# Altium footprint library IC_NRF7002-QFAA-R7.PcbLib: 1 footprints
Each footprint in its own frame and in the unit in brackets; x right, y up, seen from the top. Pads: shape width x height; smd on the part's side, far side on the other; paste and mask are expansions set on the pad; w line width, h text height; cw(c..) or ccw(c..) is an arc to the next point about the centre after c.
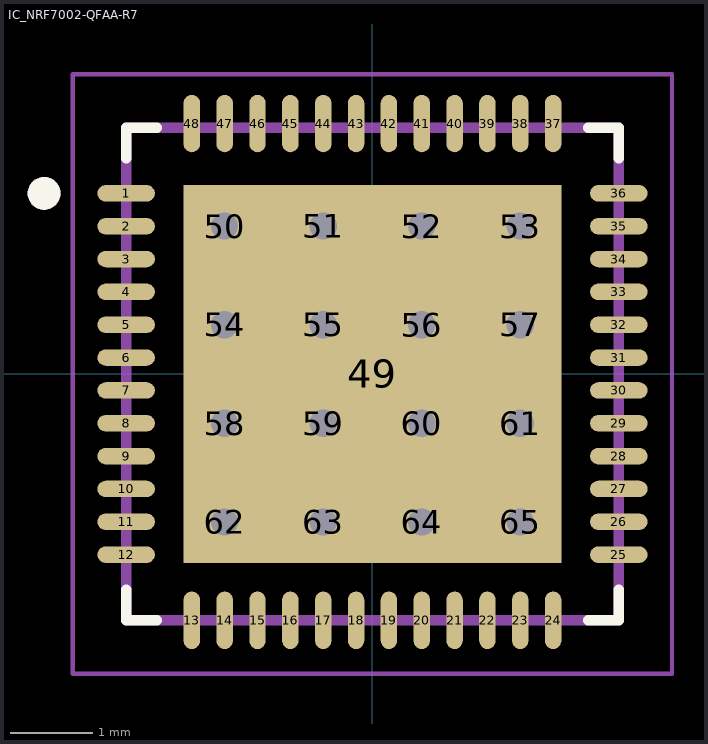
[diagram p0: the footprint, top view; thin cyan lines are the x and y axes]

## IC_NRF7002-QFAA-R7 [mm]
height 0.95
pads (65):
  oval 0.7x0.2 smd: 1(-3,2.2) 2(-3,1.8) 3(-3,1.4) 4(-3,1) 5(-3,0.6) 6(-3,0.2) 7(-3,-0.2) 8(-3,-0.6) 9(-3,-1) 10(-3,-1.4) 11(-3,-1.8) 12(-3,-2.2) 25(3,-2.2) 26(3,-1.8) 27(3,-1.4) 28(3,-1) 29(3,-0.6) 30(3,-0.2) 31(3,0.2) 32(3,0.6) 33(3,1) 34(3,1.4) 35(3,1.8) 36(3,2.2)
  oval 0.2x0.7 smd: 13(-2.2,-3) 14(-1.8,-3) 15(-1.4,-3) 16(-1,-3) 17(-0.6,-3) 18(-0.2,-3) 19(0.2,-3) 20(0.6,-3) 21(1,-3) 22(1.4,-3) 23(1.8,-3) 24(2.2,-3) 37(2.2,3.05) 38(1.8,3.05) 39(1.4,3.05) 40(1,3.05) 41(0.6,3.05) 42(0.2,3.05) 43(-0.2,3.05) 44(-0.6,3.05) 45(-1,3.05) 46(-1.4,3.05) 47(-1.8,3.05) 48(-2.2,3.05)
  rect 4.6x4.6 smd paste-3: 49(0,0)
  round 0.63 hole 0.33 mask+0: 50(-1.8,1.8) 51(-0.6,1.8) 52(0.6,1.8) 53(1.8,1.8) 54(-1.8,0.6) 55(-0.6,0.6) 56(0.6,0.6) 57(1.8,0.6) 58(-1.8,-0.6) 59(-0.6,-0.6) 60(0.6,-0.6) 61(1.8,-0.6) 62(-1.8,-1.8) 63(-0.6,-1.8) 64(0.6,-1.8) 65(1.8,-1.8)
Top Overlay:
  circle w0.2: c-4,2.2 r0.1
  lines w0.127: -3,-2.625 -3,-3 -2.625,-3 ; -3,2.625 -3,3 -2.625,3 ; 2.625,-3 3,-3 3,-2.625 ; 2.625,3 3,3 3,2.625
Top Paste:
  region: -0.425,0.425 -1.885,0.425 -1.885,1.885 -0.425,1.885
  region: -0.425,-1.885 -1.885,-1.885 -1.885,-0.425 -0.425,-0.425
  region: 1.885,-1.885 0.425,-1.885 0.425,-0.425 1.885,-0.425
  region: 1.885,0.425 0.425,0.425 0.425,1.885 1.885,1.885
Assembly Top:
  circle w0.2: c-4,2.2 r0.1
  lines w0.127: -3,-3 3,-3 3,3 -3,3 -3,-3
Courtyard Top:
  lines w0.05: -3.65,-3.65 3.65,-3.65 3.65,3.65 -3.65,3.65 -3.65,-3.65
3D body "step_temp.STEP": height 0.9, standoff 0, extent -3,-3 3,3